# EAGLE library part BNO055 (library Adafruit_BNO055)
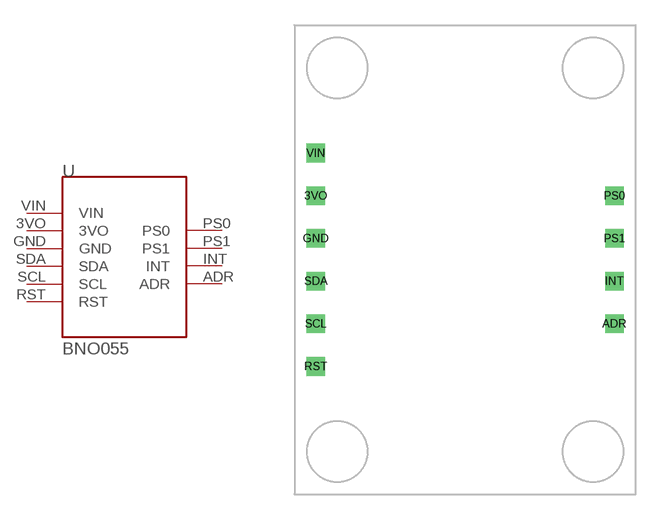
[diagram p0: symbol with the pads of BNO055; footprint BNO055]

Designator prefix -

## BNO055  [BNO055]
3VO  3VO  out
ADR  ADR  in
GND  GND  in
INT  INT  out
PS0  PS0  in
PS1  PS1  in
RST  RST  in
SCL  SCL
SDA  SDA
VIN  VIN  in

## Footprint BNO055 (pad centres in mm)
drill 0.6 square: 3VO -10.16,3.81; ADR 7.62,-3.81; GND -10.16,1.27; INT 7.62,-1.27; PS0 7.62,3.81; PS1 7.62,1.27; RST -10.16,-6.35; SCL -10.16,-3.81; SDA -10.16,-1.27; VIN -10.16,6.35